# Altium footprint library SOT669.PcbLib: 1 footprints
Each footprint in its own frame and in the unit in brackets; x right, y up, seen from the top. Pads: shape width x height; smd on the part's side, far side on the other; paste and mask are expansions set on the pad; w line width, h text height; cw(c..) or ccw(c..) is an arc to the next point about the centre after c.
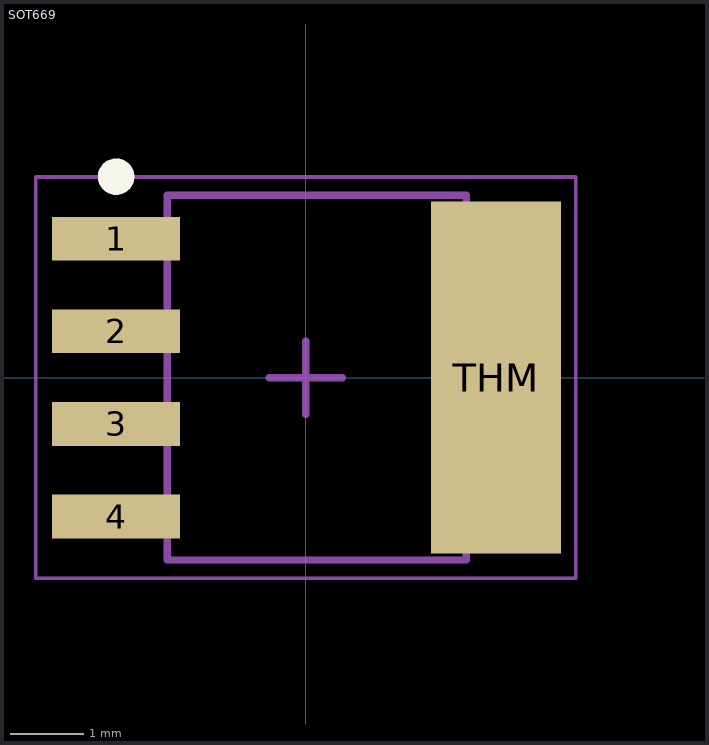
[diagram p0: the footprint, top view; thin cyan lines are the x and y axes]

## SOT669 [mm] "PSMN2R2-25YLC"
height 1.2
pads (5):
  rect 1.75x0.6 smd: 1(-2.6,1.905) 2(-2.6,0.635) 3(-2.6,-0.635) 4(-2.6,-1.905)
  rect 1.78x4.826 smd: THM(2.61,0)
Top Overlay:
  circle w0.25: c-2.6,2.755 r0.125
Mechanical 13:
  lines w0.1: -1.9,-2.5 -1.9,2.5 2.2,2.5 2.2,-2.5 -1.9,-2.5
Mechanical 15:
  lines w0.05: -3.7,-2.75 -3.7,2.75 3.7,2.75 3.7,-2.75 -3.7,-2.75
  lines w0.1: -0.5,0 0.5,0 ; 0,-0.5 0,0.5
3D body: height 1.2, standoff 0, extent -1.9,-2.5 2.2,2.5